# EAGLE library part HCPL2631 (library mylib)
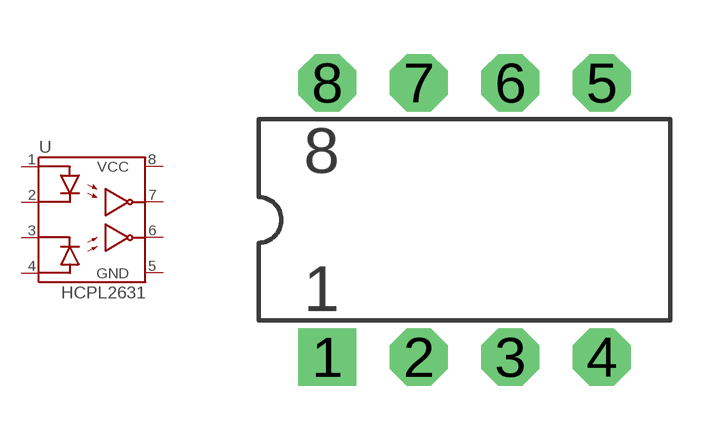
[diagram p13: symbol with the pads of DIL08; footprint DIL08]

Designator prefix -

## HCPL2631  [DIL08]
1  ANODE1
2  CATHODE1
3  CATHODE2
4  ANODE2
5  GND
6  VO2
7  VO1
8  VCC

## Footprint DIL08 (pad centres in mm)
drill 0.813 pad 1.6 square: 1 -3.81,-3.81
drill 0.813 pad 1.6 octagon: 2 -1.27,-3.81; 3 1.27,-3.81; 4 3.81,-3.81; 5 3.81,3.81; 6 1.27,3.81; 7 -1.27,3.81; 8 -3.81,3.81